# Altium integrated library Molex FPC-FFC.IntLib: 2 symbols
Pins are listed as number, name and electrical type; pins without a type are passive.

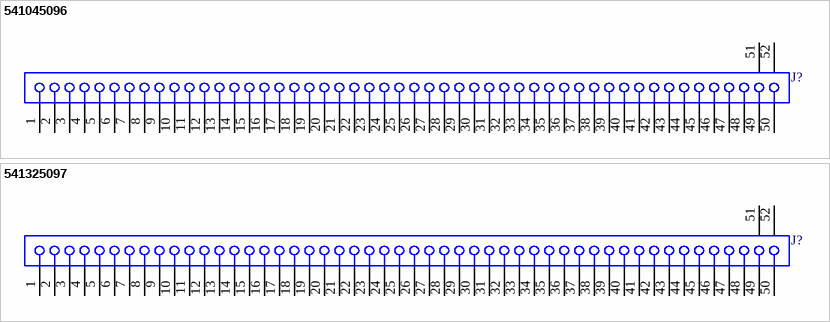
[diagram p0: symbols 541045096 to 541325097]

## 541045096
designator J?
FPC/FFC Connector, Right Angle, SMT, ZIF, Top Contact Style, 50 Position, Pitch 0.50mm (.020"), Lead-free; PCB_Layout: Complies with manufacturer's FFC recommendation.; Published: 30-May-2008; DatasheetVersion: Aug-2006; PackageVersion: Jan-2004; PackageReference: 541045096; Publisher: Altium Limited; ComponentLink1Description: Manufacturer Link; ComponentLink1URL: http://www.molex.com/; ComponentLink2Description: Datasheet; ComponentLink2URL: http://www.molex.com/pdm_docs/ps/PS-54104-069.pdf; ComponentLink3Description: Packaging Specification; ComponentLink3URL: http://www.molex.com/pdm_docs/sd/541045031_sd.pdf
footprint 541045096 (Connector; FPC/FFC, SM, 50 Position, Right Angle, Pitch 0.50mm, Body 30.5x5.0mm (LxW), Top Contacts)
signal-integrity model FPC-FFC
pins: 1, 2, 3, 4, 5, 6, 7, 8, 9, 10, 11, 12, 13, 14, 15, 16, 17, 18, 19, 20, 21, 22, 23, 24, 25, 26, 27, 28, 29, 30, 31, 32, 33, 34, 35, 36, 37, 38, 39, 40, 41, 42, 43, 44, 45, 46, 47, 48, 49, 50, 51 MH1, 52 MH2

## 541325097
designator J?
FPC/FFC Connector, Right Angle, SMT, ZIF, Bottom Contact Style, 50 Position, Pitch 0.50mm (.020"), Lead-free; PCB_Layout: Complies with manufacturer's FFC recommendation.; Published: 30-May-2008; DatasheetVersion: Aug-2006; PackageVersion: revA, Feb-2004; PackageReference: 541325097; Publisher: Altium Limited; ComponentLink1Description: Manufacturer Link; ComponentLink1URL: http://www.molex.com/; ComponentLink2Description: Datasheet; ComponentLink2URL: http://www.molex.com/pdm_docs/ps/PS-54132-058.pdf; ComponentLink3Description: Packaging Specification; ComponentLink3URL: http://www.molex.com/pdm_docs/sd/541325097_sd.pdf
footprint 541325097 (Connector; FPC/FFC, SM, 50 Position, Right Angle, Pitch 0.50mm, Body 30.5x5.0mm (LxW), Bottom Contacts)
signal-integrity model FPC-FFC
pins: 1, 2, 3, 4, 5, 6, 7, 8, 9, 10, 11, 12, 13, 14, 15, 16, 17, 18, 19, 20, 21, 22, 23, 24, 25, 26, 27, 28, 29, 30, 31, 32, 33, 34, 35, 36, 37, 38, 39, 40, 41, 42, 43, 44, 45, 46, 47, 48, 49, 50, 51 MH1, 52 MH2